# Altium footprint library CAPPM7362X375N.PcbLib: 1 footprints
Each footprint in its own frame and in the unit in brackets; x right, y up, seen from the top. Pads: shape width x height; smd on the part's side, far side on the other; paste and mask are expansions set on the pad; w line width, h text height; cw(c..) or ccw(c..) is an arc to the next point about the centre after c.
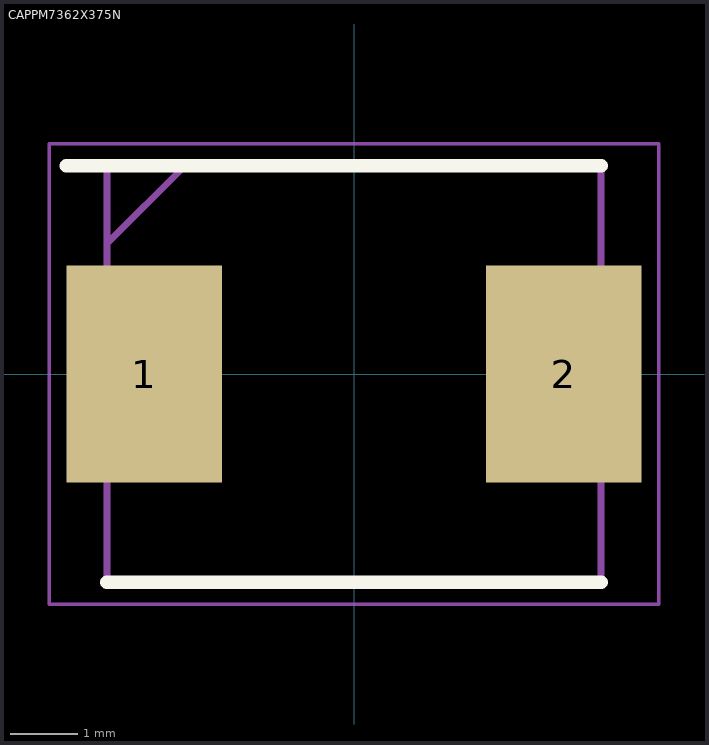
[diagram p0: the footprint, top view; thin cyan lines are the x and y axes]

## CAPPM7362X375N [mm]
pads (2):
  rect 2.3x3.2 smd: 1(-3.1,0) 2(3.1,0)
Top Overlay:
  lines w0.2: -4.25,3.075 3.65,3.075 ; -3.65,-3.075 3.65,-3.075
Mechanical 15:
  lines w0.1: -3.65,1.925 -2.5,3.075 ; -3.65,-3.075 3.65,-3.075 3.65,3.075 -3.65,3.075 -3.65,-3.075
Mechanical 20:
  lines w0.05: -4.5,-3.4 4.5,-3.4 4.5,3.4 -4.5,3.4 -4.5,-3.4